# Altium footprint library Valve.PcbLib: 10 footprints
Each footprint in its own frame and in the unit in brackets; x right, y up, seen from the top. Pads: shape width x height; smd on the part's side, far side on the other; paste and mask are expansions set on the pad; w line width, h text height; cw(c..) or ccw(c..) is an arc to the next point about the centre after c.
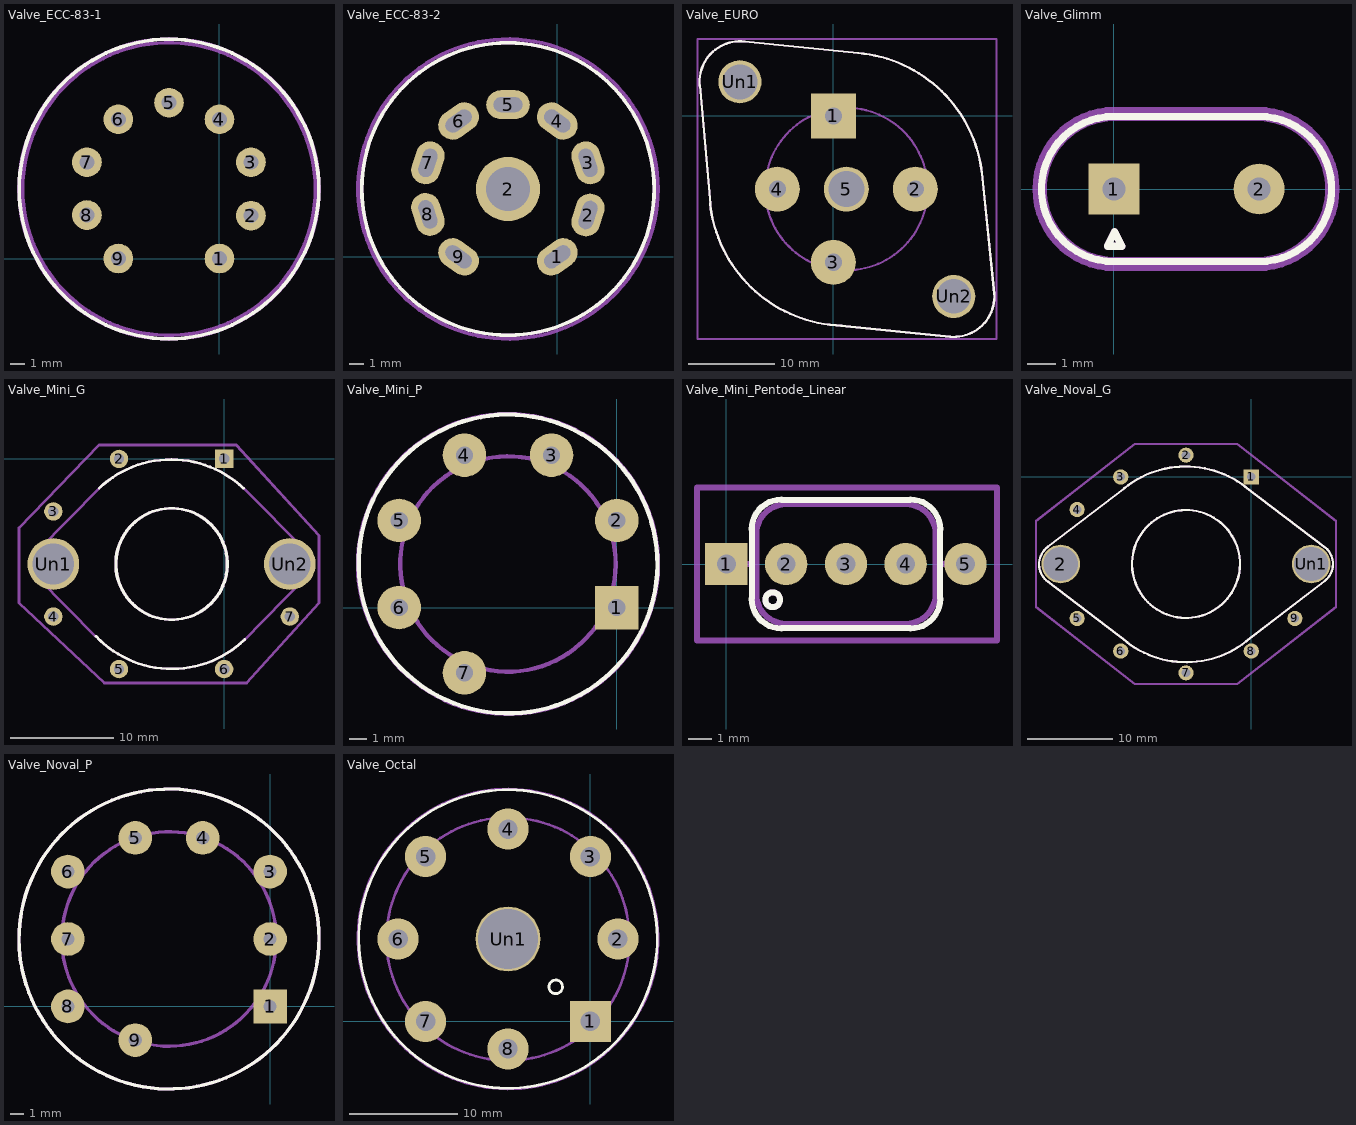
[diagram p0: the footprints below, top view; thin cyan lines are the x and y axes]

## Valve_ECC-83-1 [mm]
pads (9):
  round 2.03 hole 1.02: 1(0,0) 2(2.15,2.93) 3(2.15,6.58) 4(0,9.51) 5(-3.45,10.65) 6(-6.91,9.51) 7(-9.06,6.58) 8(-9.06,2.97) 9(-6.91,0)
F.SilkS:
  circle w0.254: c-3.45,4.75 r10.239
F.Fab:
  circle w0.254: c-3.45,4.75 r10
  text "'.Designator'" at -7.497,3.91 h1
F.CrtYd:
  circle w0.254: c-3.45,4.75 r10.25

## Valve_ECC-83-2 [mm]
pads (10):
  rrect100% 2.03x3.05 hole 2.03 slot 1.02 at 126 deg rot 126: 1(0,0) 6(-6.91,9.51)
  round 4.5 hole 3.1: 2(-3.45,4.75)
  rrect100% 2.03x3.05 hole 2.03 slot 1.02 at 162 deg rot 162: 2(2.15,2.93) 7(-9.06,6.58)
  rrect100% 2.03x3.05 hole 2.03 slot 1.02 at 18 deg rot 18: 3(2.15,6.58) 8(-9.06,2.97)
  rrect100% 2.03x3.05 hole 2.03 slot 1.02 at 54 deg rot 54: 4(0,9.51) 9(-6.91,0)
  rrect100% 3.05x2.03 hole 2.03 slot 1.02 at 90 deg: 5(-3.45,10.65)
F.SilkS:
  circle w0.254: c-3.45,4.75 r10.239
F.Fab:
  circle w0.254: c-3.45,4.75 r10.25
  text "'.Designator'" at -7.497,12.41 h1
F.CrtYd:
  circle w0.254: c-3.45,4.75 r10.5

## Valve_EURO [mm]
pads (7):
  rect 5.21x5.21 hole 2: 1(0,0)
  round 5.21 hole 2: 2(9.5,-8.48) 3(0,-16.97) 4(-6.5,-8.48)
  round 5.21 hole 4.2: 5(1.5,-8.48)
  round 5 hole 4.06: Un1(-10.85,3.96)
  round 5 hole 4: Un2(13.94,-20.93)
F.SilkS:
  lines w0.254: 2.87,7.29 -10.36,8.64 2.87,7.29 ; 2.87,7.29 cw(c1.52,-8.46) 17.232,-6.725 ccw(c1.52,-8.46) 2.87,7.29 ; -15.5,3.5 cw(c-10.82,3.96) -10.289,8.632 ccw(c-10.82,3.96) -15.5,3.5 ; -15.49,3.53 -14.27,-10.21 -15.49,3.53 ; -14.303,-10.108 ccw(c1.45,-8.48) 0.98,-24.31 cw(c1.45,-8.48) -14.303,-10.108 ; 0.86,-24.33 13.54,-25.6 0.86,-24.33 ; 13.497,-25.59 ccw(c13.97,-20.93) 18.64,-20.57 cw(c13.97,-20.93) 13.497,-25.59 ; 17.22,-6.63 18.64,-20.62 17.22,-6.63
F.Fab:
  circle w0.254: c1.5,-8.48 r9.419
  lines w0.254: 2.87,7.29 -10.36,8.64 2.87,7.29 ; 2.87,7.29 cw(c1.52,-8.46) 17.232,-6.725 ccw(c1.52,-8.46) 2.87,7.29 ; -15.5,3.5 cw(c-10.82,3.96) -10.289,8.632 ccw(c-10.82,3.96) -15.5,3.5 ; -15.49,3.53 -14.27,-10.21 -15.49,3.53 ; -14.303,-10.108 ccw(c1.45,-8.48) 0.98,-24.31 cw(c1.45,-8.48) -14.303,-10.108 ; 0.86,-24.33 13.54,-25.6 0.86,-24.33 ; 13.497,-25.59 ccw(c13.97,-20.93) 18.64,-20.57 cw(c13.97,-20.93) 13.497,-25.59 ; 17.22,-6.63 18.64,-20.62 17.22,-6.63
  text "'.Designator'" at 5.703,0.18 h1
F.CrtYd:
  lines w0.254: -15.77,-25.86 -15.77,8.92 18.91,8.92 18.91,-25.86 -15.77,-25.86

## Valve_Glimm [mm]
pads (2):
  rect 1.78x1.78 hole 0.8: 1(0,0)
  round 1.78 hole 0.8: 2(5.08,0)
F.SilkS:
  lines w0.254: -0.23,-2 0.27,-2 0.02,-1.5 -0.23,-2 ; 0,-2.54 5.08,-2.54 ccw(c5.08,0) 5.08,2.54 0,2.54 ccw(c0,0) 0,-2.54
F.Fab:
  lines w0.254: -0.23,-2 0.27,-2 0.02,-1.5 -0.23,-2 ; 0.02,-2.5 5.02,-2.5 ccw(c5.02,0) 5.02,2.5 0.02,2.5 ccw(c0.02,0) 0.02,-2.5
  text "'.Designator'" at -0.553,-0.668 h0.75
F.CrtYd:
  lines w0.254: 0.02,-2.75 5.02,-2.75 ccw(c5.02,0) 5.02,2.75 0.02,2.75 ccw(c0.02,0) 0.02,-2.75

## Valve_Mini_G [mm]
pads (9):
  rect 1.78x1.78 hole 1: 1(0,0)
  round 1.78 hole 1: 2(-10.16,0) 3(-16.51,-5.08) 4(-16.51,-15.24) 5(-10.16,-20.32) 6(0,-20.32) 7(6.35,-15.24)
  round 5 hole 4: Un1(-16.51,-10.16) Un2(6.35,-10.16)
F.SilkS:
  circle w0.254: c-5.11,-10.16 r5.388
  circle w0.254: c-5.05,-10.16 r5.388
  circle w0.254: c-5.05,-10.16 r5.388
  circle w0.254: c-5.05,-10.16 r5.388
  lines w0.254: -12.404,-17.143 ccw(c-5.05,-10.16) 2.01,-17.44 ; -12.07,-2.82 cw(c-5.11,-10.21) 1.88,-2.848
F.Fab:
  circle w0.254: c-5.11,-10.16 r5.388
  circle w0.254: c-5.05,-10.16 r5.388
  circle w0.254: c-5.05,-10.16 r5.388
  circle w0.254: c-5.05,-10.16 r5.388
  lines w0.254: -18.01,-11.51 -12.4,-17.2 ; -18.01,-8.84 -12.07,-2.82 cw(c-5.11,-10.21) 1.88,-2.848 ; -18.009,-8.842 ccw(c-16.51,-10.16) -17.98,-11.51 ; -12.404,-17.143 ccw(c-5.05,-10.16) 2.01,-17.44 ; 1.91,-17.55 7.82,-11.53 ; 1.91,-2.87 7.9,-8.89 cw(c6.35,-10.16) 7.785,-11.559
  text "'.Designator'" at -9.127,-3.75 h1
F.CrtYd:
  lines w0.254: -19.83,-13.91 -19.83,-7.41 -19.83,-6.66 -12.08,1.34 -11.33,1.34 1.17,1.34 9.17,-7.41 9.17,-12.91 9.17,-13.91 2.17,-21.66 -11.58,-21.66 -19.83,-13.91
Dwgs.User:
  text "mounting" at -8.239,-9.73 h1
  text "d=15.6mm" at -8.817,-11.83 h1

## Valve_Mini_P [mm]
pads (7):
  rect 2.54x2.54 hole 1: 1(0,0)
  round 2.54 hole 1: 2(0,5.08) 3(-3.81,8.89) 4(-8.89,8.89) 5(-12.7,5.08) 6(-12.7,0) 7(-8.89,-3.81)
F.SilkS:
  circle w0.254: c-6.35,2.54 r8.721
F.Fab:
  circle w0.254: c-6.35,2.54 r6.286
  text "'.Designator'" at -10.397,1.7 h1
F.CrtYd:
  circle w0.254: c-6.35,2.54 r8.754

## Valve_Mini_Pentode_Linear [mm]
pads (5):
  rect 1.8x1.8 hole 0.8: 1(0,0)
  round 1.8 hole 0.8: 2(2.54,0) 3(5.08,0) 4(7.62,0) 5(10.16,0)
F.SilkS:
  circle w0.254: c1.97,-1.52 r0.314
  lines w0.254: 1.07,-1.47 ccw(c2.34,-1.47) 2.34,-2.74 ; 1.07,1.47 cw(c2.34,1.47) 2.34,2.74 ; 1.08,-1.46 1.08,1.52 ; 2.35,-2.73 7.81,-2.73 ; 2.35,2.73 7.81,2.73 ; 7.82,-2.74 ccw(c7.82,-1.47) 9.09,-1.47 ; 7.82,2.74 cw(c7.82,1.47) 9.09,1.47 ; 9.08,-1.46 9.08,1.46
F.Fab:
  circle w0.254: c1.97,-1.52 r0.314
  lines w0.254: 0,0 1.27,0 ; 8.89,0 10.16,0 ; 1.27,-1.27 ccw(c2.54,-1.27) 2.54,-2.54 7.62,-2.54 ccw(c7.62,-1.27) 8.89,-1.27 8.89,1.27 ccw(c7.62,1.27) 7.62,2.54 2.54,2.54 ccw(c2.54,1.27) 1.27,1.27 1.27,-1.27
  text "'.Designator'" at 1.033,0.87 h1
F.CrtYd:
  lines w0.254: -1.25,-3.25 11.5,-3.25 11.5,3.25 -1.25,3.25 -1.25,-3.25
3D body "Valve_Mini_Pentode_Linear.step": height 41.72, standoff -2.9, extent -0.264,-2.997 10.396,2.997

## Valve_Noval_G [mm]
pads (11):
  rect 1.78x1.78 hole 1: 1(0,0)
  round 4.5 hole 4: 2(-22.23,-10.16) Un1(6.99,-10.16)
  round 1.78 hole 1: 2(-7.62,2.54) 3(-15.24,0) 4(-20.32,-3.81) 5(-20.32,-16.51) 6(-15.24,-20.32) 7(-7.62,-22.86) 8(0,-20.32) 9(5.08,-16.51)
F.SilkS:
  circle w0.254: c-7.62,-10.16 r6.293
  lines w0.254: -23.769,-8.191 ccw(c-22.25,-10.19) -23.7,-12.24 ; -23.75,-12.19 -14.43,-19.3 ; -23.75,-8.15 -14.73,-1.27 ; -14.83,-1.32 cw(c-7.65,-10.21) -0.666,-1.165 ; -14.492,-19.317 ccw(c-7.62,-10.21) -0.57,-19.18 ; -0.74,-1.12 8.69,-8.28 cw(c6.99,-10.16) 8.608,-12.111 ; -0.63,-19.2 8.66,-12.06
F.Fab:
  circle w0.254: c-7.62,-10.16 r6.293
  lines w0.254: -23.769,-8.191 ccw(c-22.25,-10.19) -23.7,-12.24 ; -23.75,-12.19 -14.43,-19.3 ; -23.75,-8.15 -14.73,-1.27 ; -14.83,-1.32 cw(c-7.65,-10.21) -0.666,-1.165 ; -14.492,-19.317 ccw(c-7.62,-10.21) -0.57,-19.18 ; -0.74,-1.12 8.69,-8.28 cw(c6.99,-10.16) 8.608,-12.111 ; -0.63,-19.2 8.66,-12.06
  text "'.Designator'" at -11.667,-11 h1
F.CrtYd:
  lines w0.254: -25.12,-15.16 -25.12,-5.16 -13.62,3.84 -1.62,3.84 9.88,-5.16 9.88,-15.16 -1.62,-24.16 -7.62,-24.16 -13.62,-24.16 -25.12,-15.16
Dwgs.User:
  text "d=18,0mm" at -11.384,-18.155 h1

## Valve_Noval_P [mm]
pads (9):
  rect 2.54x2.54 hole 1: 1(0,0)
  round 2.54 hole 1: 2(0,5.08) 3(0,10.16) 4(-5.08,12.7) 5(-10.16,12.7) 6(-15.24,10.16) 7(-15.24,5.08) 8(-15.24,0) 9(-10.16,-2.54)
F.SilkS:
  circle w0.254: c-7.62,5.08 r11.305
F.Fab:
  circle w0.254: c-7.62,5.08 r8.082
  text "'.Designator'" at -11.667,4.24 h1
F.CrtYd:
  circle w0.254: c-7.62,5.08 r11.305

## Valve_Octal [mm]
pads (9):
  rect 3.81x3.81 hole 1.8: 1(0,0)
  round 3.81 hole 1.8: 2(2.54,7.62) 3(0,15.24) 4(-7.62,17.78) 5(-15.24,15.24) 6(-17.78,7.62) 7(-15.24,0) 8(-7.62,-2.54)
  round 6 hole 5.5: Un1(-7.62,7.62)
F.SilkS:
  circle w0.254: c-7.62,7.62 r13.789
  circle w0.254: c-3.21,3.2 r0.629
F.Fab:
  circle w0.254: c-7.62,7.62 r11.229
  text "'.Designator'" at -11.667,11.78 h1
F.CrtYd:
  circle w0.254: c-7.62,7.62 r13.861